# Altium schematic symbol library display.SchLib: 11 symbols
Pins are listed as number, name and electrical type; pins without a type are passive.

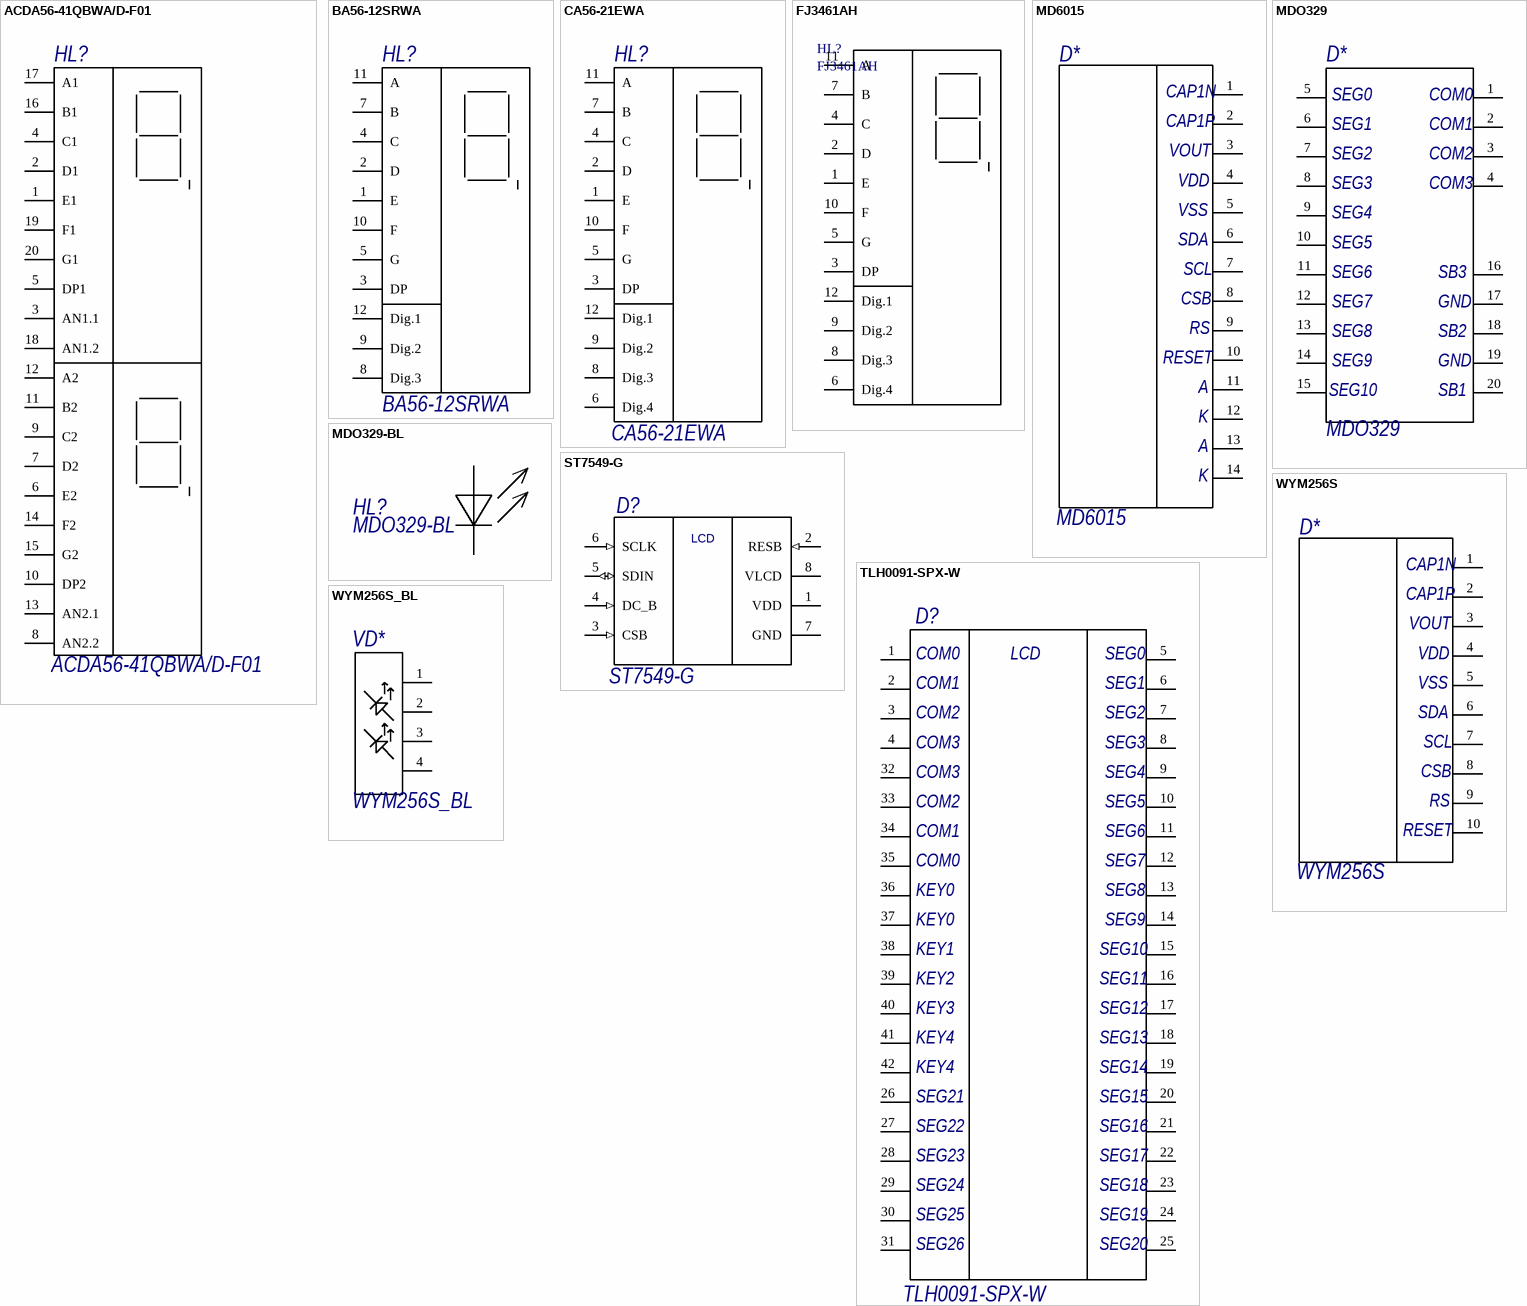
[diagram p0: symbols ACDA56-41QBWA/D-F01 to WYM256S_BL]

## ACDA56-41QBWA/D-F01
designator HL?
7 seg indicator
footprint SMD_7SEG_O.K.Electro
pins: 1 E1, 2 D1, 3 AN1.1, 4 C1, 5 DP1, 6 E2, 7 D2, 8 AN2.2, 9 C2, 10 DP2, 11 B2, 12 A2, 13 AN2.1, 14 F2, 15 G2, 16 B1, 17 A1, 18 AN1.2, 19 F1, 20 G1

## BA56-12SRWA
designator HL?
Value: *
footprint BX56-12
pins: 1 E, 2 D, 3 DP, 4 C, 5 G, 6 hidden, 7 B, 8 Dig.3, 9 Dig.2, 10 F, 11 A, 12 Dig.1

## CA56-21EWA
designator HL?
Value: *
footprint BX56-21
pins: 1 E, 2 D, 3 DP, 4 C, 5 G, 6 Dig.4, 7 B, 8 Dig.3, 9 Dig.2, 10 F, 11 A, 12 Dig.1

## FJ3461AH
designator HL?
footprint FJ3461AH
pins: 1 E, 2 D, 3 DP, 4 C, 5 G, 6 Dig.4, 7 B, 8 Dig.3, 9 Dig.2, 10 F, 11 A, 12 Dig.1

## MD6015
designator D*
LCD display
footprint MD6015
pins: 1, 2, 3, 4, 5, 6, 7, 8, 9, 10, 11, 12, 13, 14
text: CAP1N; CAP1P; VOUT; VDD; VSS; SDA; SCL; CSB; RS; RESET; A; K

## MDO329
designator D*
LCD display
footprint MDO329
pins: 1, 2, 3, 4, 5, 6, 7, 8, 9, 10, 11, 12, 13, 14, 15, 16, 17, 18, 19, 20
text: SEG0; COM0; SEG1; COM1; SEG2; COM2; SEG3; COM3; SEG4; SEG5; SEG6; SB3; SEG7; GND; SEG8; SB2; SEG9; SEG10; SB1

## MDO329-BL
designator HL?
Backlight
footprint MDO329-BL
pins: 1 -, 2 +

## ST7549-G
designator D?
Value: *
footprint ST7549-G
pins: 1 VDD (power), 2 RESB (in), 3 CSB (in), 4 DC_B (in), 5 SDIN (io), 6 SCLK (in), 7 GND (power), 8 VLCD (power), 9 hidden, 10 hidden, 11 hidden, 12 hidden
text: LCD

## TLH0091-SPX-W
designator D?
Value: *
footprint TLH0091-SP0-W
footprint TLH0091-SP1-W
pins: 1, 2, 3, 4, 5, 6, 7, 8, 9, 10, 11, 12, 13, 14, 15, 16, 17, 18, 19, 20, 21, 22, 23, 24, 25, 26, 27, 28, 29, 30, 31, 32, 33, 34, 35, 36, 37, 38, 39, 40, 41, 42
text: COM0; LCD; SEG0; COM1; SEG1; COM2; SEG2; COM3; SEG3; SEG4; SEG5; SEG6; SEG7; KEY0; SEG8; SEG9; KEY1; SEG10; KEY2; SEG11; KEY3; SEG12; KEY4; SEG13; SEG14; SEG21; SEG15; SEG22; SEG16; SEG23; SEG17; SEG24; SEG18; SEG25; SEG19; SEG26; SEG20

## WYM256S
designator D*
LCD display; Manufacture: WAYING（HONGKONG） SHARES LIMITED; Supplier: ООО "Промэлектроника"
footprint WYM256S(LCD) SMD
pins: 1, 2, 3, 4, 5, 6, 7, 8, 9, 10
text: CAP1N; CAP1P; VOUT; VDD; VSS; SDA; SCL; CSB; RS; RESET

## WYM256S_BL
designator VD*
Backlight
footprint WYM256S(BL) (Baklight LCD)
pins: 1 A, 2 K, 3 A, 4 K